# Altium footprint library Sumo Footprints.PcbLib: 29 footprints (part 2 of 2)
Each footprint in its own frame and in the unit in brackets; x right, y up, seen from the top. Pads: shape width x height; smd on the part's side, far side on the other; paste and mask are expansions set on the pad; w line width, h text height; cw(c..) or ccw(c..) is an arc to the next point about the centre after c.
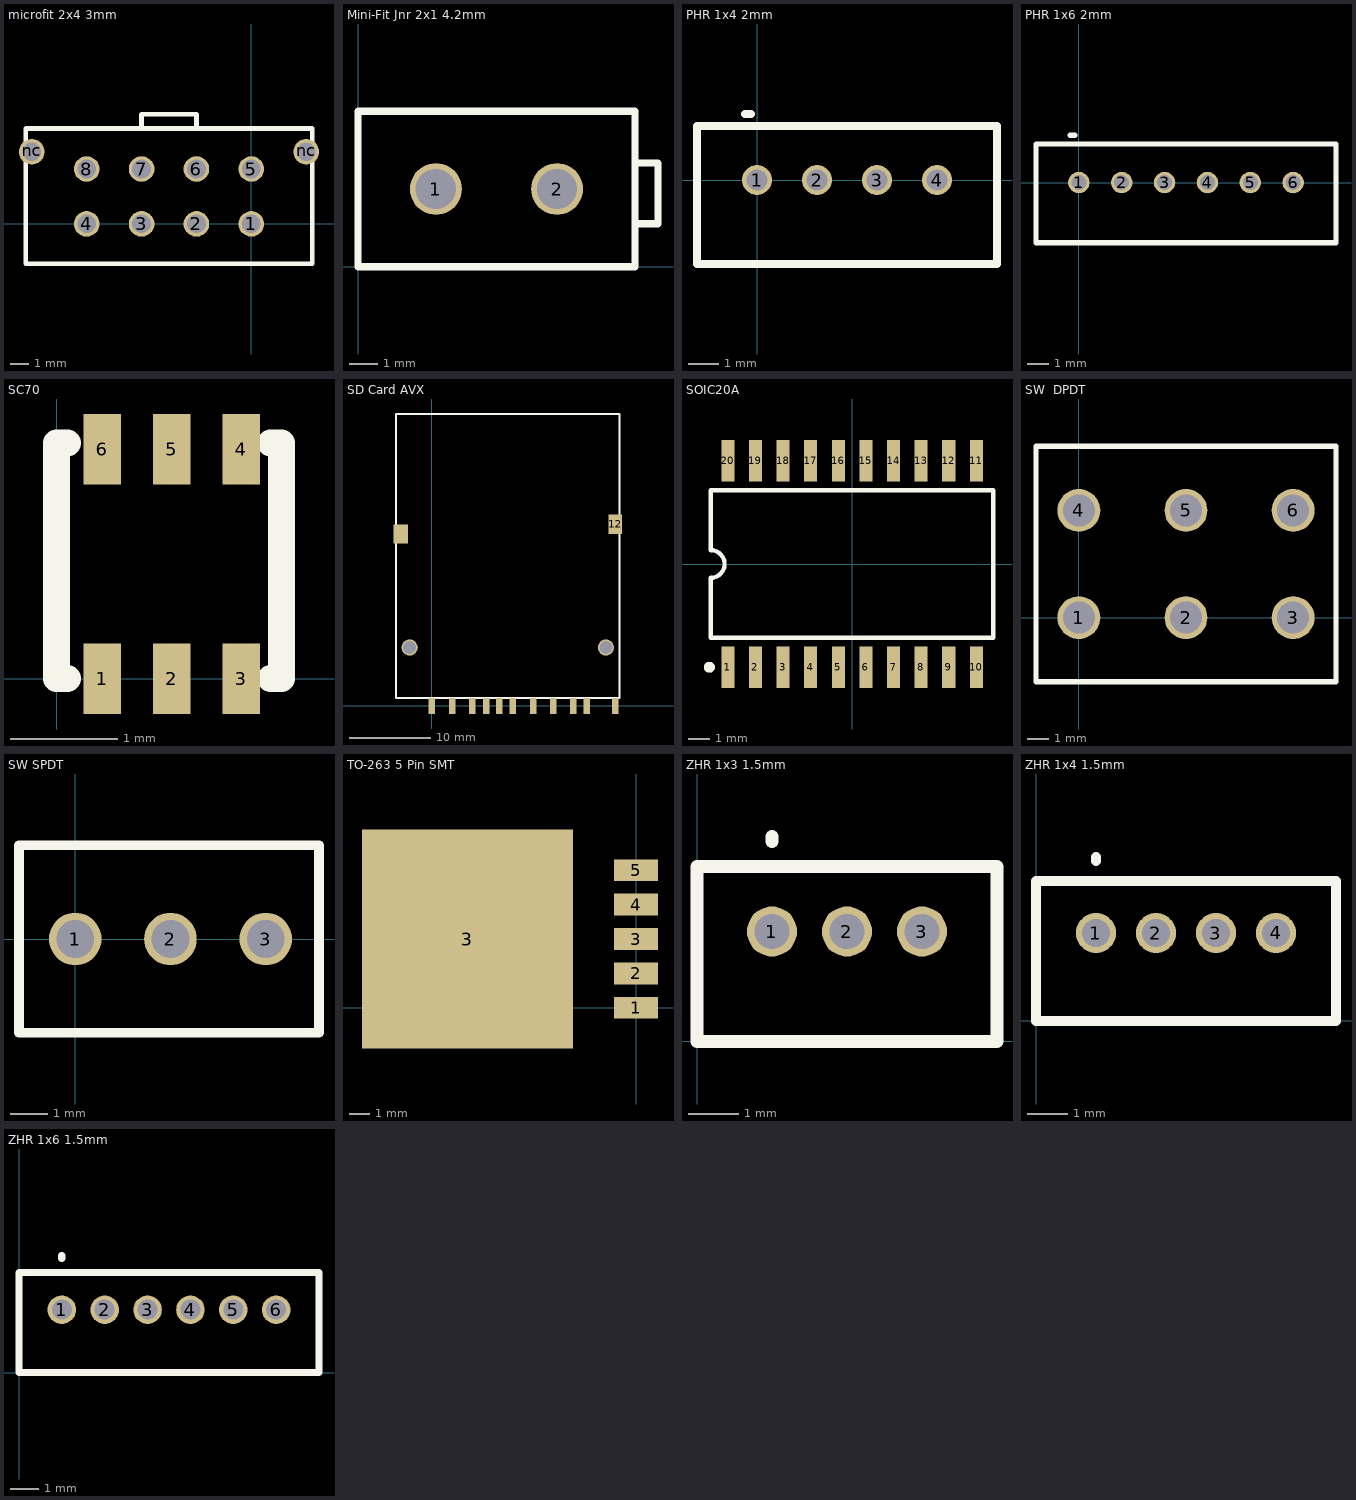
[diagram p1: the footprints below, top view; thin cyan lines are the x and y axes]

## microfit 2x4 3mm  [mm] "microfit 2x4 3mm 5A"
pads (10):
  round 1.4 on Top hole 1.02: 1(0,0) 2(-3,0) 3(-6,0) 4(-9,0) 5(0,3) 6(-3,3) 7(-6,3) 8(-9,3) nc(-12,3.94) nc(3,3.94)
Top Overlay:
  lines w0.254: -6,5.215 -6,6 -3,6 -3,5.215 ; -12.325,-2.185 -12.325,5.215 3.325,5.215 3.325,-2.185 -12.325,-2.185

## Mini-Fit Jnr 2x1 4.2mm [mm] "Mini-Fit Jnr 2x1 4.2mm pitch 9A"
pads (2):
  round 1.8 on Top hole 1.4: 1(2.7,2.7) 2(6.9,2.7)
Top Overlay:
  lines w0.254: 9.6,1.5 10.4,1.5 10.4,3.6 9.6,3.6 ; 0,0 0,5.4 9.6,5.4 9.6,0 0,0

## PHR 1x4 2mm [mm] "JST PHR 1x4 2mm 2A"
pads (4):
  round 1 on Top hole 0.7: 1(0,0) 2(2,0) 3(4,0) 4(6,0)
Top Overlay:
  lines w0.254: -0.4,2.2 -0.2,2.2 ; -2,-2.8 -2,1.8 8,1.8 8,-2.8 -2,-2.8

## PHR 1x6 2mm [mm] "JST PHR 1x6 2mm 2A"
pads (6):
  round 1 on Top hole 0.7: 1(0,0) 2(2,0) 3(4,0) 4(6,0) 5(8,0) 6(10,0)
Top Overlay:
  lines w0.254: -0.4,2.2 -0.2,2.2 ; -2,-2.8 -2,1.8 12,1.8 12,-2.8 -2,-2.8

## SC70 [mm] "6 pin, 0.65 pitch"
pads (6):
  rect 0.35x0.66 smd: 1(0.425,0) 2(1.075,0) 3(1.725,0) 4(1.725,2.14) 5(1.075,2.14) 6(0.425,2.14)
Top Overlay:
  lines w0.254: 0.1,0 0,0 0,2.2 0.1,2.2 ; 2,0 2.1,0 2.1,2.2 2,2.2
  text "." at 0.4,-0.6 h0.25

## SD Card AVX [mm] "SD Card AVX 145638009211862"
pads (15):
  rect 0.8x2 smd: 1(2.5,0) 2(5,0) 3(8.3,0) 4(10,0) 5(12.5,0) 6(15,0) 7(17.43,0) 8(19.13,0) 9(0,0) 10(6.7,0) 11(22.62,0)
  rect 1.7x2.4 smd: 12(22.63,22.4)
  rect 1.8x2.4 smd: ""(-3.82,21.2)
  round 2 on Top hole 1.6: ""(-2.72,7.2) ""(21.48,7.2)
Top Overlay:
  lines w0.254: -4.42,1 23.18,1 23.18,36 -4.42,36 -4.42,1

## SOIC20A [mm]
pads (20):
  rect 0.6x1.9 smd: 1(-5.715,-4.75) 2(-4.445,-4.75) 3(-3.175,-4.75) 4(-1.905,-4.75) 5(-0.635,-4.75) 6(0.635,-4.75) 7(1.905,-4.75) 8(3.175,-4.75) 9(4.445,-4.75) 10(5.715,-4.75) 11(5.715,4.75) 12(4.445,4.75) 13(3.175,4.75) 14(1.905,4.75) 15(0.635,4.75) 16(-0.635,4.75) 17(-1.905,4.75) 18(-3.175,4.75) 19(-4.445,4.75) 20(-5.715,4.75)
Top Overlay:
  circle w0.25: c-6.565,-4.75 r0.125
  lines w0.2: -6.5,-3.4 -6.5,-0.635 ccw(c-6.5,0) -6.5,0.635 -6.5,3.4 6.5,3.4 6.5,-3.4 -6.5,-3.4

## SW  DPDT [mm] "Alltronics Toggle"
pads (6):
  round 2 on Top hole 1.5: 1(0,0) 2(5,0) 3(10,0) 4(0,5) 5(5,5) 6(10,5)
Top Overlay:
  lines w0.254: -2,-3 12,-3 12,8 -2,8 -2,-3

## SW SPDT [mm] "SW SPDT 0.1\" pitch"
pads (3):
  round 1.4 on Top hole 1: 1(0,0) 2(2.54,0) 3(5.08,0)
Top Overlay:
  lines w0.254: -1.5,-2.5 -1.5,2.5 6.5,2.5 6.5,-2.5 -1.5,-2.5

## TO-263 5 Pin SMT [mm] "TO-263 5 Pin SMT"
pads (6):
  rect 2.16x1.07 smd: 1(0,0) 2(0,1.7) 3(0,3.4) 4(0,5.1) 5(0,6.8)
  rect 10.41x10.8 smd: 3(-8.33,3.4)

## ZHR 1x3 1.5mm [mm] "JST ZHR 1x3 1.5mm 1A"
pads (3):
  round 1 on Top hole 0.7: 1(1.5,2.2) 2(3,2.2) 3(4.5,2.2)
Top Overlay:
  lines w0.254: 1.5,4 1.5,4.1 ; 0,0 6,0 6,3.5 0,3.5 0,0

## ZHR 1x4 1.5mm [mm] "JST ZHR 1x4 1.5mm 1A"
pads (4):
  round 1 on Top hole 0.7: 1(1.5,2.2) 2(3,2.2) 3(4.5,2.2) 4(6,2.2)
Top Overlay:
  lines w0.254: 1.5,4 1.5,4.1 ; 0,0 0,3.5 7.5,3.5 7.5,0 0,0

## ZHR 1x6 1.5mm [mm] "JST ZHR 1x6 1.5mm 1A"
pads (6):
  round 1 on Top hole 0.7: 1(1.5,2.2) 2(3,2.2) 3(4.5,2.2) 4(6,2.2) 5(7.5,2.2) 6(9,2.2)
Top Overlay:
  lines w0.254: 1.5,4 1.5,4.1 ; 0,0 0,3.5 10.5,3.5 10.5,0 0,0